# EAGLE library part BQ4011 (library bq4011)
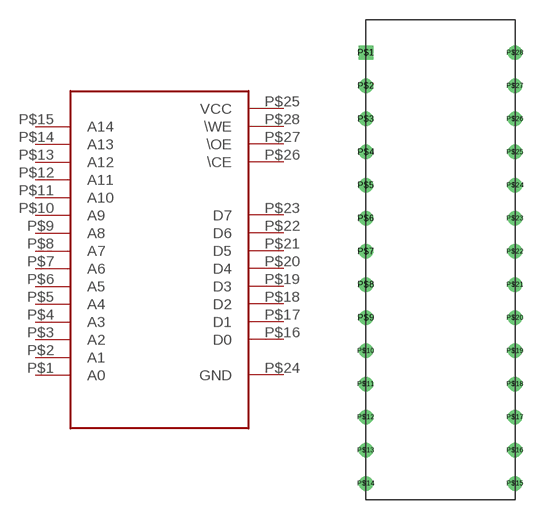
[diagram p0: symbol with the pads of BQ4011; footprint BQ4011]

Designator prefix -

## BQ4011  [BQ4011]
P$1  A0
P$2  A1
P$3  A2
P$4  A3
P$5  A4
P$6  A5
P$7  A6
P$8  A7
P$9  A8
P$10  A9
P$11  A10
P$12  A11
P$13  A12
P$14  A13
P$15  A14
P$16  D0
P$17  D1
P$18  D2
P$19  D3
P$20  D4
P$21  D5
P$22  D6
P$23  D7
P$24  GND
P$25  VCC
P$26  \\CE
P$27  \\OE
P$28  \\WE

## Footprint BQ4011 (pad centres in mm)
drill 0.6 square: P$1 -10.16,7.62
drill 0.6: P$2 -10.16,5.08; P$3 -10.16,2.54; P$4 -10.16,0; P$5 -10.16,-2.54; P$6 -10.16,-5.08; P$7 -10.16,-7.62; P$8 -10.16,-10.16; P$9 -10.16,-12.7; P$10 -10.16,-15.24; P$11 -10.16,-17.78; P$12 -10.16,-20.32; P$13 -10.16,-22.86; P$14 -10.16,-25.4; P$15 1.27,-25.4; P$16 1.27,-22.86; P$17 1.27,-20.32; P$18 1.27,-17.78; P$19 1.27,-15.24; P$20 1.27,-12.7; P$21 1.27,-10.16; P$22 1.27,-7.62; P$23 1.27,-5.08; P$24 1.27,-2.54; P$25 1.27,0; P$26 1.27,2.54; P$27 1.27,5.08; P$28 1.27,7.62